# Altium schematic symbol library CHIP_RESISTOR_SURFACE_MOUNT.SchLib: 6 symbols
Pins are listed as number, name and electrical type; pins without a type are passive.

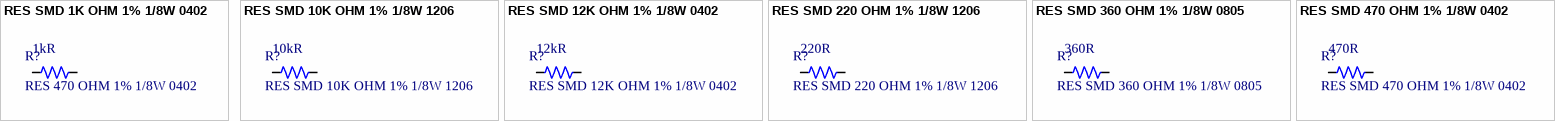
[diagram p0: symbols RES SMD 1K OHM 1% 1/8W 0402 to RES SMD 470 OHM 1% 1/8W 0402]

## RES SMD 1K OHM 1% 1/8W 0402
designator R?, comment RES 470 OHM 1% 1/8W 0402  value 1kR
Res Thick Film 0402 1K Ohm 1% 0.125W(1/8W) ±100ppm/C Pad SMD T/R; Manufacturer: TE Connectivity; Manufacturer Part Number: CRGP0402F1K0; Max Power Dissipation: 125mW; Temperature Coefficient: 100ppm/°C; Supplier: Digi-Key; Supplier Part Number: A130355CT-ND; RoHS: Yes; Category: Chip SMD Resistors; Stock: 70769; Pricing: 1=0.11, 10=0.095, 100=0.0365, 1000=0.01607, 2500=0.01388, 5000=0.01242 (USD); Case/Package: 0402; Case Code (Imperial): 0402; Case Code (Metric): 1005; Min Operating Temperature: -55°C; Max Operating Temperature: 155°C; Packaging: Cut Tape; Tolerance: 1%; Number of Terminations: 2; Series: CRGP; RoHS Compliant: Yes; ComponentLink1URL: https://4donline.ihs.com/images/VipMasterIC/IC/TYEL/TYEL-S-A0005460475/TYEL-S-A0005460475-1.pdf?hkey=52A5661711E402568146F3353EA87419&src-supplier=Newark; ComponentLink1Description: https://4donline.ihs.com/images/VipMasterIC/IC/TYEL/TYEL-S-A0005460475/TYEL-S-A0005460475-1.pdf?hkey=52A5661711E402568146F3353EA87419&src-supplier=Newark; ComponentLink2URL: https://4donline.ihs.com/images/VipMasterIC/IC/TYEL/TYEL-S-A0005460475/TYEL-S-A0005460475-1.pdf?hkey=52A5661711E402568146F3353EA87419&src-supplier=Farnell; ComponentLink2Description: https://4donline.ihs.com/images/VipMasterIC/IC/TYEL/TYEL-S-A0005460475/TYEL-S-A0005460475-1.pdf?hkey=52A5661711E402568146F3353EA87419&src-supplier=Farnell; ComponentLink3URL: https://www.te.com/commerce/DocumentDelivery/DDEController?Action=srchrtrv&amp;DocNm=9-1773463-9&amp;DocType=DS&amp;DocLang=English&src-supplier=Digi-Key; ComponentLink3Description: https://www.te.com/commerce/DocumentDelivery/DDEController?Action=srchrtrv&amp;DocNm=9-1773463-9&amp;DocType=DS&amp;DocLang=English&src-supplier=Digi-Key; ComponentLink4URL: https://www.te.com/commerce/DocumentDelivery/DDEController?Action=srchrtrv&DocNm=9-1773463-9&DocType=DS&DocLang=English&src-supplier=Digi-Key; ComponentLink4Description: https://www.te.com/commerce/DocumentDelivery/DDEController?Action=srchrtrv&DocNm=9-1773463-9&DocType=DS&DocLang=English&src-supplier=Digi-Key; ComponentLink5URL: https://4donline.ihs.com/images/VipMasterIC/IC/TYEL/TYEL-S-A0005460475/TYEL-S-A0005460475-1.pdf?hkey=52A5661711E402568146F3353EA87419&src-supplier=Element14; ComponentLink5Description: https://4donline.ihs.com/images/VipMasterIC/IC/TYEL/TYEL-S-A0005460475/TYEL-S-A0005460475-1.pdf?hkey=52A5661711E402568146F3353EA87419&src-supplier=Element14
footprint RES_0402_IPC_A
footprint RES_0402_IPC_B
footprint RES_0402_IPC_C
pins: 1, 2

## RES SMD 10K OHM 1% 1/8W 1206
designator R?  value 10kR
Res Thin Film 1206 10K Ohm 0.1% 1/8W ±10ppm/°C Molded SMD SMD Paper T/R; Manufacturer: TE Connectivity; Manufacturer Part Number: RN73C2B10KBTDF; Max Power Dissipation: 125mW; Voltage Rating: 150V; Number of Resistors: 1; ComponentLink1URL: https://media.digikey.com/pdf/Data%20Sheets/Yageo%20PDFs/ProdSelectGuide%202014_Final.pdf?src-supplier=Digi-Key; ComponentLink1Description: https://media.digikey.com/pdf/Data%20Sheets/Yageo%20PDFs/ProdSelectGuide%202014_Final.pdf?src-supplier=Digi-Key; ComponentLink2URL: https://datasheet.ciiva.com/24418/eng-ds-1773270-l-24418939.pdf?src-supplier=Onlinecomponents.com; ComponentLink2Description: https://datasheet.ciiva.com/24418/eng-ds-1773270-l-24418939.pdf?src-supplier=Onlinecomponents.com; Supplier: Mouser; Supplier Part Number: 279-RN73C2B10KBTDF; RoHS: Yes; Category: Chip SMD Resistors; Stock: 696; Pricing: 1=1.18000, 10=1.05000, 50=0.87700, 100=0.75900, 1000=0.44800, 10000=0.43800 (USD); Mounting Technology: Surface Mount; Case/Package: 1206; Case Code (Imperial): 1206; Case Code (Metric): 3216; Weight: 0.000571oz; Min Operating Temperature: -55°C; Max Operating Temperature: 155°C; Packaging: Tape and Reel; Tolerance: 0.1%; Package Quantity: 1000; Temperature Coefficient: 10ppm/°C; Number of Terminations: 2; Series: RN73, Holsworthy; Power Rating: 125mW; Termination: Solder; Length: 3.05mm; Width: 1.55mm; Height: 0.55mm; RoHS Compliant: Yes; ELV: Compliant
footprint RES_1206_IPC_A
footprint RES_1206_IPC_B
footprint RES_1206_IPC_C
pins: 1, 2

## RES SMD 12K OHM 1% 1/8W 0402
designator R?  value 12kR
Res Thick Film 0402 12K Ohm 1% 0.125W(1/8W) ±100ppm/C Pad SMD T/R; Manufacturer: TE Connectivity; Manufacturer Part Number: CRGP0402F12K; Max Power Dissipation: 125mW; Temperature Coefficient: 100ppm/°C; Supplier: Digi-Key; Supplier Part Number: A130368CT-ND; RoHS: Yes; Category: Chip SMD Resistors; Stock: 83412; Pricing: 1=0.1, 10=0.073, 100=0.0282, 1000=0.01241, 2500=0.01072, 5000=0.00959 (USD); Case/Package: 0402; Case Code (Imperial): 0402; Case Code (Metric): 1005; Min Operating Temperature: -55°C; Max Operating Temperature: 155°C; Series: CRGP; Packaging: Cut Tape; Tolerance: 1%; Number of Terminations: 2; RoHS Compliant: Yes; ComponentLink1URL: http://datasheet.octopart.com/CRGP0402F12K-TE-Connectivity-datasheet-114718804.pdf?src-supplier=Rs; ComponentLink1Description: http://datasheet.octopart.com/CRGP0402F12K-TE-Connectivity-datasheet-114718804.pdf?src-supplier=Rs; ComponentLink2URL: https://www.te.com/commerce/DocumentDelivery/DDEController?Action=srchrtrv&amp;DocNm=9-1773463-9&amp;DocType=DS&amp;DocLang=English&src-supplier=Digi-Key; ComponentLink2Description: https://www.te.com/commerce/DocumentDelivery/DDEController?Action=srchrtrv&amp;DocNm=9-1773463-9&amp;DocType=DS&amp;DocLang=English&src-supplier=Digi-Key
footprint RES_0402_IPC_A
footprint RES_0402_IPC_B
footprint RES_0402_IPC_C
pins: 1, 2

## RES SMD 220 OHM 1% 1/8W 1206
designator R?  value 220R
Res Thin Film 1206 220 Ohm 0.1% 1/4W ±25ppm/°C Molded SMD SMD Punched Carrier T/R; Manufacturer: Panasonic; Manufacturer Part Number: ERA8AEB221V; Power Rating: 250mW; Voltage Rating: 150V; Voltage Rating (DC): 300V; Supplier: Digi-Key; Supplier Part Number: P220BCCT-ND; RoHS: Yes; Category: Chip SMD Resistors; Stock: 8083; Pricing: 1=0.66000, 10=0.47200, 100=0.24550, 500=0.16994, 1000=0.13218, 2500=0.12746 (USD); Mounting Technology: Surface Mount; Case/Package: 1206; Pins: 2; Case Code (Imperial): 1206; Case Code (Metric): 3216; Weight: 0.000571oz; Contact Plating: Tin; Min Operating Temperature: -55°C; Max Operating Temperature: 155°C; Tolerance: 0.1%; Package Quantity: 5000; Packaging: Tape and Reel; Resistor Type: Metal Film,Thin Film; Termination: SMD/SMT; Number of Terminations: 2; Temperature Coefficient: 25ppm/°C; Max Power Dissipation: 250mW; Series: ERA-8A; Resistance Tolerance: 0.1%; Features: Automotive AEC-Q200; Length: 3.2mm; Width: 1.6mm; Height: 0.6mm; Ratings: AEC-Q200; Reach SVHC Compliant: No; Lead Free: Lead Free; RoHS Compliant: Yes; ComponentLink1URL: https://datasheet.ciiva.com/48425/era-eng-tds-48425527.pdf?src-supplier=Distrelec; ComponentLink1Description: https://datasheet.ciiva.com/48425/era-eng-tds-48425527.pdf?src-supplier=Distrelec; ComponentLink2URL: https://datasheet.ciiva.com/48529/era-eng-tds-48529695.pdf?src-supplier=Distrelec; ComponentLink2Description: https://datasheet.ciiva.com/48529/era-eng-tds-48529695.pdf?src-supplier=Distrelec; ComponentLink3URL: https://datasheet.ciiva.com/7886/391390-7886682.pdf?src-supplier=Element14; ComponentLink3Description: https://datasheet.ciiva.com/7886/391390-7886682.pdf?src-supplier=Element14; ComponentLink4URL: https://datasheet.ciiva.com/6138/391390-6138648.pdf?src-supplier=Farnell; ComponentLink4Description: https://datasheet.ciiva.com/6138/391390-6138648.pdf?src-supplier=Farnell; ComponentLink5URL: https://datasheet.ciiva.com/46445/391390-46445784.pdf?src-supplier=Element14; ComponentLink5Description: https://datasheet.ciiva.com/46445/391390-46445784.pdf?src-supplier=Element14; ComponentLink6URL: https://datasheet.ciiva.com/24159/aoa0000ce26-197354-24159241.pdf?src-supplier=Mouser; ComponentLink6Description: https://datasheet.ciiva.com/24159/aoa0000ce26-197354-24159241.pdf?src-supplier=Mouser; ComponentLink7URL: https://datasheet.ciiva.com/9184/aoa0000ce26-9184334.pdf?src-supplier=Avnet; ComponentLink7Description: https://datasheet.ciiva.com/9184/aoa0000ce26-9184334.pdf?src-supplier=Avnet; Supplier 1: Digi-Key; Supplier Part Number 1: P220BCCT-ND; Supplier 2: Mouser; Supplier Part Number 2: 667-ERA-8AEB221V
footprint RES_1206_IPC_A
footprint RES_1206_IPC_B
footprint RES_1206_IPC_C
pins: 1, 2

## RES SMD 360 OHM 1% 1/8W 0805
designator R?  value 360R
Res Thick Film 0805 360 Ohm 1% 1/8W ±100ppm/°C Molded SMD SMD Paper T/R; Manufacturer: Vishay; Manufacturer Part Number: CRCW0805360RFKEA; Max Power Dissipation: 125mW; Voltage Rating (DC): 150V; Supplier: Mouser; Supplier Part Number: 71-CRCW0805360RFKEA; RoHS: Yes; Category: Chip SMD Resistors; Stock: 3123; Pricing: 1=0.13000, 10=0.06800, 50=0.06800, 100=0.02800, 1000=0.01300, 10000=0.00800 (USD); Case/Package: 0805; Case Code (Metric): 2012; Case Code (Imperial): 0805; Weight: 0.000194oz; Min Operating Temperature: -55°C; Max Operating Temperature: 155°C; Tolerance: 1%; Packaging: Cut Tape; Number of Terminations: 2; Temperature Coefficient: 100ppm/°C; Series: CRCW; Package Quantity: 5000; Features: Automotive AEC-Q200; Power Rating: 125mW; Voltage Rating: 150V; Termination: SMD/SMT; Technology: THICK FILM; Length: 2mm; Width: 1.25mm; Height: 0.45mm; Ratings: AEC-Q200; RoHS Compliant: Yes; Lead Free: Lead Free; ComponentLink1URL: https://datasheet.ciiva.com/2467/dcrcwe3-2467773.pdf?src-supplier=Digi-Key; ComponentLink1Description: https://datasheet.ciiva.com/2467/dcrcwe3-2467773.pdf?src-supplier=Digi-Key; Supplier 1: Mouser; Supplier Part Number 1: 71-CRCW0805360RFKEA; Supplier 2: Digi-Key; Supplier Part Number 2: 541-360CCT-ND
footprint RES_0805_IPC_A
footprint RES_0805_IPC_B
footprint RES_0805_IPC_C
pins: 1, 2

## RES SMD 470 OHM 1% 1/8W 0402
designator R?  value 470R
Res Pulse Withstand Thick Film 0402 470 Ohm 1% 1/8W ±100ppm/°C Molded Paper T/R; Manufacturer: TE Connectivity; Manufacturer Part Number: CRGP0402F470R; Max Power Dissipation: 125mW; Supplier: Digi-Key; Supplier Part Number: A130351CT-ND; RoHS: Yes; Category: Chip SMD Resistors; Stock: 140477; Pricing: 1=0.11, 10=0.095, 100=0.0367, 1000=0.01616, 2500=0.01396, 5000=0.01249 (USD); Case/Package: 0402; Case Code (Imperial): 0402; Case Code (Metric): 1005; Min Operating Temperature: -55°C; Max Operating Temperature: 155°C; Packaging: Cut Tape; Tolerance: 1%; Temperature Coefficient: 100ppm/°C; Number of Terminations: 2; Series: CRGP; RoHS Compliant: Yes; ComponentLink1URL: http://datasheet.octopart.com/CRGP0402F470R-TE-Connectivity-datasheet-114718804.pdf?src-supplier=Rs; ComponentLink1Description: http://datasheet.octopart.com/CRGP0402F470R-TE-Connectivity-datasheet-114718804.pdf?src-supplier=Rs; ComponentLink2URL: https://www.te.com/commerce/DocumentDelivery/DDEController?Action=srchrtrv&amp;DocNm=9-1773463-9&amp;DocType=DS&amp;DocLang=English&src-supplier=Digi-Key; ComponentLink2Description: https://www.te.com/commerce/DocumentDelivery/DDEController?Action=srchrtrv&amp;DocNm=9-1773463-9&amp;DocType=DS&amp;DocLang=English&src-supplier=Digi-Key; ComponentLink3URL: https://www.te.com/commerce/DocumentDelivery/DDEController?Action=srchrtrv&DocNm=9-1773463-9&DocType=DS&DocLang=English&src-supplier=Digi-Key; ComponentLink3Description: https://www.te.com/commerce/DocumentDelivery/DDEController?Action=srchrtrv&DocNm=9-1773463-9&DocType=DS&DocLang=English&src-supplier=Digi-Key
footprint RES_0402_IPC_A
footprint RES_0402_IPC_B
footprint RES_0402_IPC_C
pins: 1, 2